# EAGLE library part PCA9535 (library micro-philips)
16-bit I2C-bus and SMBus, low power I/O port with interrupt
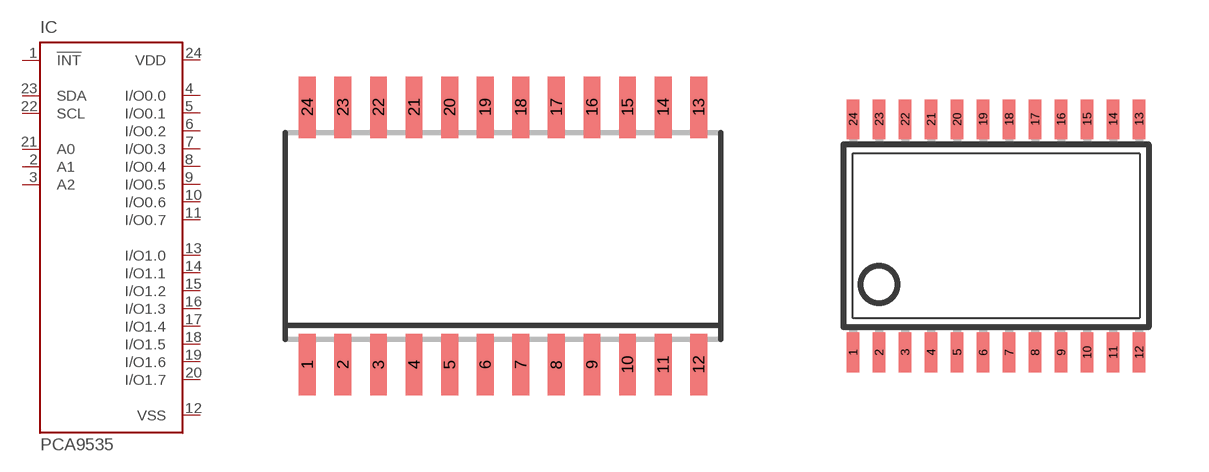
[diagram p30: symbol with the pads of SO24; footprints SO24, TSSOP24]

Designator prefix IC

## PCA9535D  [SO24]
1  !INT  out
2  A1  in
3  A2  in
4  I/O0.0
5  I/O0.1
6  I/O0.2
7  I/O0.3
8  I/O0.4
9  I/O0.5
10  I/O0.6
11  I/O0.7
12  VSS  pwr
13  I/O1.0
14  I/O1.1
15  I/O1.2
16  I/O1.3
17  I/O1.4
18  I/O1.5
19  I/O1.6
20  I/O1.7
21  A0  in
22  SCL  in
23  SDA
24  VDD  pwr

## PCA9535PW  [TSSOP24]
Pads as for SO24

## Footprint SO24 (pad centres in mm)
Small Outline Package 7.6 x 15.74 mm
smd 0.6 x 2.2: 1 -6.985,-4.6; 2 -5.715,-4.6; 3 -4.445,-4.6; 4 -3.175,-4.6; 5 -1.905,-4.6; 6 -0.635,-4.6; 7 0.635,-4.6; 8 1.905,-4.6; 9 3.175,-4.6; 10 4.445,-4.6; 11 5.715,-4.6; 12 6.985,-4.6; 13 6.985,4.6; 14 5.715,4.6; 15 4.445,4.6; 16 3.175,4.6; 17 1.905,4.6; 18 0.635,4.6; 19 -0.635,4.6; 20 -1.905,4.6; 21 -3.175,4.6; 22 -4.445,4.6; 23 -5.715,4.6; 24 -6.985,4.6

## Footprint TSSOP24 (pad centres in mm)
Thin Shrink Small Outline Plastic 24 Source: MAX3223-MAX3243.pdf
smd 0.305 x 0.991: 1 -3.575,-2.918; 2 -2.925,-2.918; 3 -2.275,-2.918; 4 -1.625,-2.918; 5 -0.975,-2.918; 6 -0.325,-2.918; 7 0.325,-2.918; 8 0.975,-2.918; 9 1.625,-2.918; 10 2.275,-2.918; 11 2.925,-2.918; 12 3.575,-2.918; 13 3.575,2.918; 14 2.925,2.918; 15 2.275,2.918; 16 1.625,2.918; 17 0.975,2.918; 18 0.325,2.918; 19 -0.325,2.918; 20 -0.975,2.918; 21 -1.625,2.918; 22 -2.275,2.918; 23 -2.925,2.918; 24 -3.575,2.918